# Altium footprint library CYPCBLIB.PcbLib: 185 footprints (part 2 of 12)
Each footprint in its own frame and in the unit in brackets; x right, y up, seen from the top. Pads: shape width x height; smd on the part's side, far side on the other; paste and mask are expansions set on the pad; w line width, h text height; cw(c..) or ccw(c..) is an arc to the next point about the centre after c.
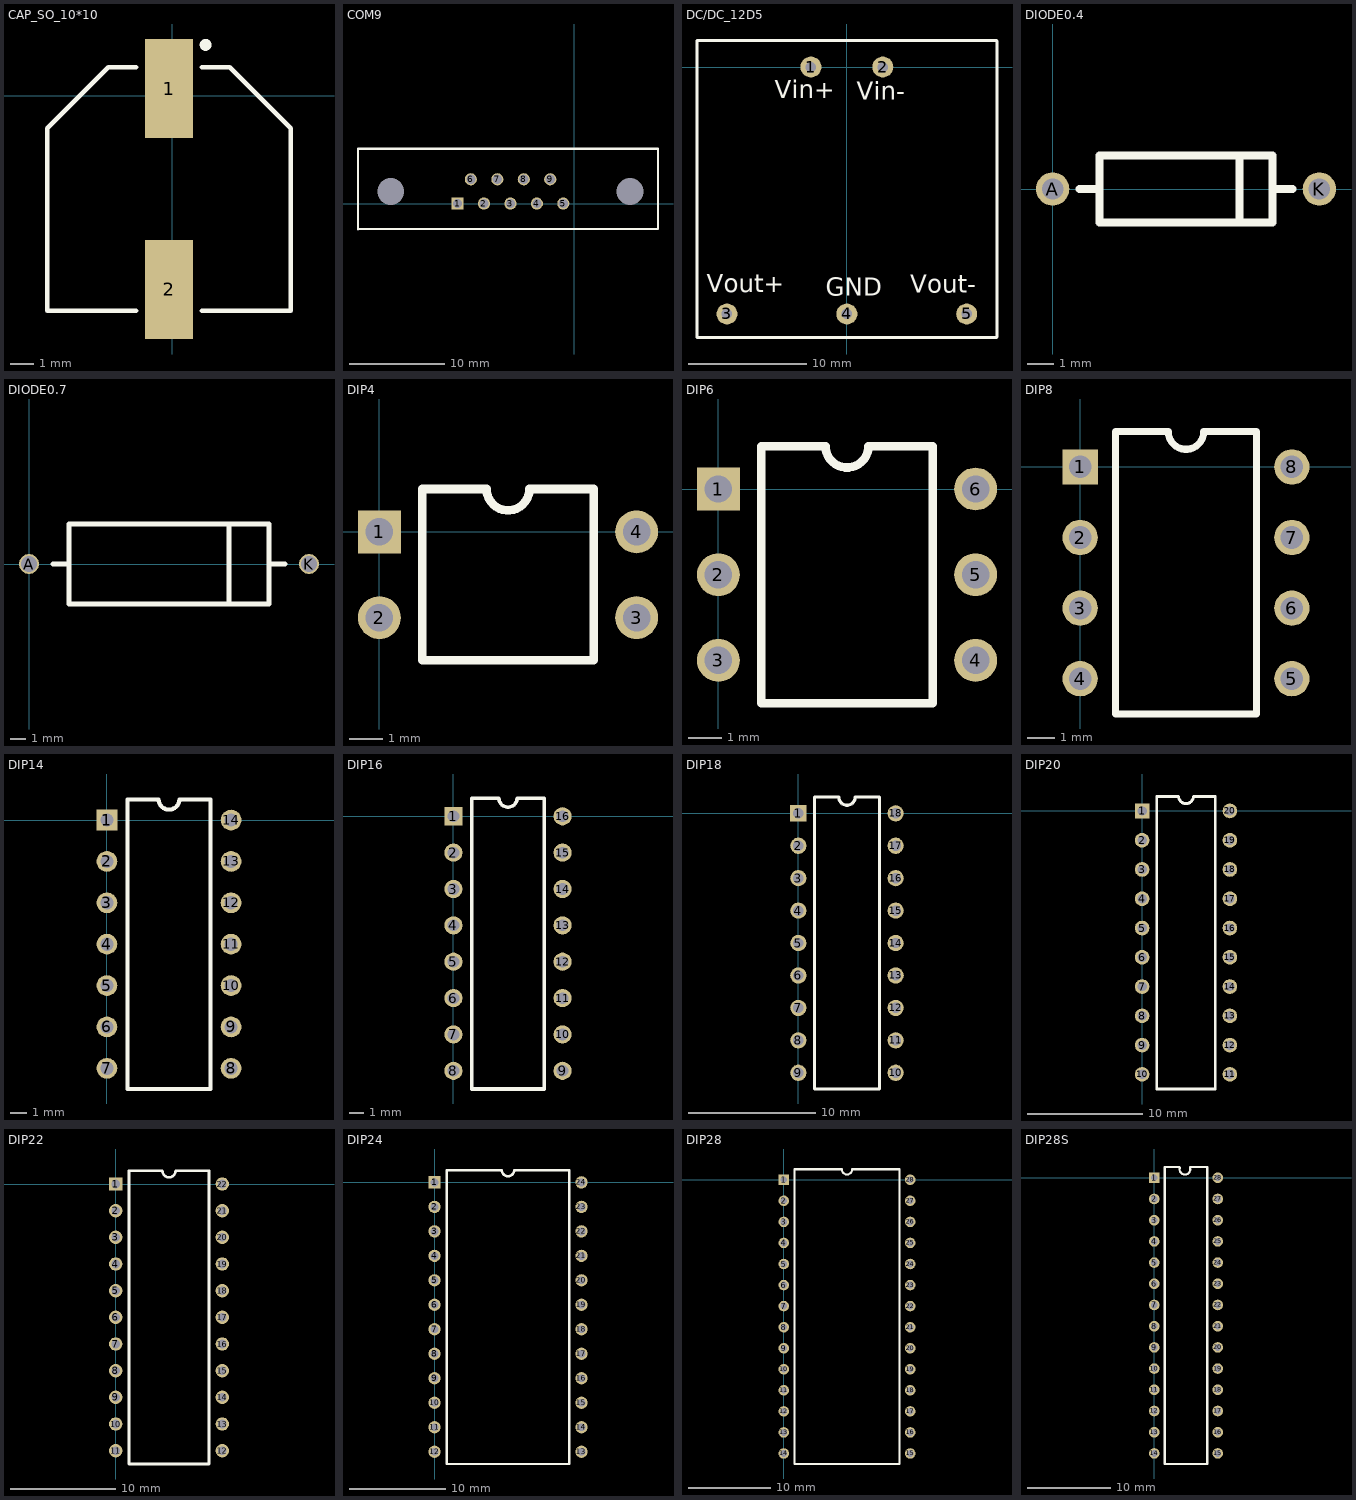
[diagram p1: the footprints below, top view; thin cyan lines are the x and y axes]

## CAP_SO_10*10 [mm]
pads (2):
  rect 2.05x4.2 smd: 1(-0.127,0.313) 2(-0.127,-8.187)
TopOverlay:
  circle w0.25: c1.423,2.163 r0.125
  lines w0.2: -1.527,-9.087 -5.277,-9.087 -5.277,-1.362 -2.702,1.213 -1.527,1.213 ; 1.273,-9.087 5.023,-9.087 5.023,-1.362 2.448,1.213 1.273,1.213

## COM9 [mil]
pads (11):
  rect 50x50 hole 38: 1(-480,0)
  round 50 hole 38: 2(-371,0) 3(-262,0) 4(-153,0) 5(-44,0) 6(-425,100) 7(-316,100) 8(-207,100) 9(-98,100)
  round 50 hole 110: ""(-755,50) ""(231,50)
TopOverlay:
  lines w8: -890,-105 346,-105 346,225
  lines w10: -890,-105 -890,225 346,225

## DC/DC_12D5 [mil]
pads (5):
  round 70 hole 35: 1(-120,0) 2(120,0) 3(-400,-824) 4(0,-824) 5(400,-824)
TopOverlay:
  lines w10: -500,-902 -500,88 500,88 501,87 501,-901 500,-902 -500,-902
  text "Vout-" at 211,-754 h60
  text "Vin-" at 33,-110 h60
  text "GND" at -70,-763 h60
  text "Vin+" at -240,-105 h60
  text "Vout+" at -468,-752 h60

## DIODE0.4 [mil]
pads (2):
  round 50 hole 32: A(0,0) K(400,0)
TopOverlay:
  lines w12: 40,0 70,0 ; 280,-50 280,50 ; 330,0 360,0 ; 70,-50 330,-50 330,50 70,50 70,-50

## DIODE0.7 [mil]
pads (2):
  round 50 hole 40: A(0,0) K(700,0)
TopOverlay:
  lines w12: 60,0 100,0 ; 500,-100 500,100 ; 600,0 640,0 ; 100,-100 600,-100 600,100 100,100 100,-100

## DIP4 [mil]
pads (4):
  rect 50x50 hole 32: 1(0,0)
  round 50 hole 32: 2(0,-100) 3(300,-100) 4(300,0)
TopOverlay:
  lines w10: 50,-150 50,50 125,50 ccw(c150,50) 175,50 250,50 250,-150 50,-150

## DIP6 [mil]
pads (6):
  rect 50x50 hole 32: 1(0,0)
  round 50 hole 32: 2(0,-100) 3(0,-200) 4(300,-200) 5(300,-100) 6(300,0)
TopOverlay:
  lines w10: 50,-250 50,50 125,50 ccw(c150,50) 175,50 250,50 250,-250 50,-250

## DIP8 [mil]
pads (8):
  rect 50x50 hole 32: 1(0,0)
  round 50 hole 32: 2(0,-100) 3(0,-200) 4(0,-300) 5(300,-300) 6(300,-200) 7(300,-100) 8(300,0)
TopOverlay:
  lines w10: 50,-350 50,50 125,50 ccw(c150,50) 175,50 250,50 250,-350 50,-350

## DIP14 [mil]
pads (14):
  rect 50x50 hole 32: 1(0,0)
  round 50 hole 32: 2(0,-100) 3(0,-200) 4(0,-300) 5(0,-400) 6(0,-500) 7(0,-600) 8(300,-600) 9(300,-500) 10(300,-400) 11(300,-300) 12(300,-200) 13(300,-100) 14(300,0)
TopOverlay:
  lines w10: 50,-650 250,-650 250,50 175,50 cw(c150,50) 125,50 50,50 50,-650

## DIP16 [mil]
pads (16):
  rect 50x50 hole 32: 1(0,0)
  round 50 hole 32: 2(0,-100) 3(0,-200) 4(0,-300) 5(0,-400) 6(0,-500) 7(0,-600) 8(0,-700) 9(300,-700) 10(300,-600) 11(300,-500) 12(300,-400) 13(300,-300) 14(300,-200) 15(300,-100) 16(300,0)
TopOverlay:
  lines w10: 50,-750 50,50 125,50 ccw(c150,50) 175,50 250,50 250,-750 50,-750

## DIP18 [mil]
pads (18):
  rect 50x50 hole 32: 1(0,0)
  round 50 hole 32: 2(0,-100) 3(0,-200) 4(0,-300) 5(0,-400) 6(0,-500) 7(0,-600) 8(0,-700) 9(0,-800) 10(300,-800) 11(300,-700) 12(300,-600) 13(300,-500) 14(300,-400) 15(300,-300) 16(300,-200) 17(300,-100) 18(300,0)
TopOverlay:
  lines w10: 50,-850 50,50 125,50 ccw(c150,50) 175,50 250,50 250,-850 50,-850

## DIP20 [mil]
pads (20):
  rect 50x50 hole 32: 1(0,0)
  round 50 hole 32: 2(0,-100) 3(0,-200) 4(0,-300) 5(0,-400) 6(0,-500) 7(0,-600) 8(0,-700) 9(0,-800) 10(0,-900) 11(300,-900) 12(300,-800) 13(300,-700) 14(300,-600) 15(300,-500) 16(300,-400) 17(300,-300) 18(300,-200) 19(300,-100) 20(300,0)
TopOverlay:
  lines w10: 50,-950 50,50 125,50 ccw(c150,50) 175,50 250,50 250,-950 50,-950

## DIP22 [mil]
pads (22):
  rect 50x50 hole 32: 1(0,0)
  round 50 hole 32: 2(0,-100) 3(0,-200) 4(0,-300) 5(0,-400) 6(0,-500) 7(0,-600) 8(0,-700) 9(0,-800) 10(0,-900) 11(0,-1000) 12(400,-1000) 13(400,-900) 14(400,-800) 15(400,-700) 16(400,-600) 17(400,-500) 18(400,-400) 19(400,-300) 20(400,-200) 21(400,-100) 22(400,0)
TopOverlay:
  lines w10: 50,-1050 50,50 175,50 ccw(c200,50) 225,50 350,50 350,-1050 50,-1050

## DIP24 [mil]
pads (24):
  rect 50x50 hole 32: 1(0,0)
  round 50 hole 32: 2(0,-100) 3(0,-200) 4(0,-300) 5(0,-400) 6(0,-500) 7(0,-600) 8(0,-700) 9(0,-800) 10(0,-900) 11(0,-1000) 12(0,-1100) 13(600,-1100) 14(600,-1000) 15(600,-900) 16(600,-800) 17(600,-700) 18(600,-600) 19(600,-500) 20(600,-400) 21(600,-300) 22(600,-200) 23(600,-100) 24(600,0)
TopOverlay:
  lines w10: 50,-1150 50,50 275,50 ccw(c300,50) 325,50 550,50 550,-1150 50,-1150

## DIP28 [mil]
pads (28):
  rect 50x50 hole 32: 1(0,0)
  round 50 hole 32: 2(0,-100) 3(0,-200) 4(0,-300) 5(0,-400) 6(0,-500) 7(0,-600) 8(0,-700) 9(0,-800) 10(0,-900) 11(0,-1000) 12(0,-1100) 13(0,-1200) 14(0,-1300) 15(600,-1300) 16(600,-1200) 17(600,-1100) 18(600,-1000) 19(600,-900) 20(600,-800) 21(600,-700) 22(600,-600) 23(600,-500) 24(600,-400) 25(600,-300) 26(600,-200) 27(600,-100) 28(600,0)
TopOverlay:
  lines w10: 50,-1350 550,-1350 550,50 325,50 cw(c300,50) 275,50 50,50 50,-1350

## DIP28S [mil]
pads (28):
  rect 50x50 hole 32: 1(0,0)
  round 50 hole 32: 2(0,-100) 3(0,-200) 4(0,-300) 5(0,-400) 6(0,-500) 7(0,-600) 8(0,-700) 9(0,-800) 10(0,-900) 11(0,-1000) 12(0,-1100) 13(0,-1200) 14(0,-1300) 15(300,-1300) 16(300,-1200) 17(300,-1100) 18(300,-1000) 19(300,-900) 20(300,-800) 21(300,-700) 22(300,-600) 23(300,-500) 24(300,-400) 25(300,-300) 26(300,-200) 27(300,-100) 28(300,0)
TopOverlay:
  lines w10: 50,50 50,-1350 250,-1350 250,50 170,50 ; 55,50 120,50 ; 121.79,49.28 ccw(c145,40) 168.21,49.28